# EAGLE library part EF40-P (library old Tubes)
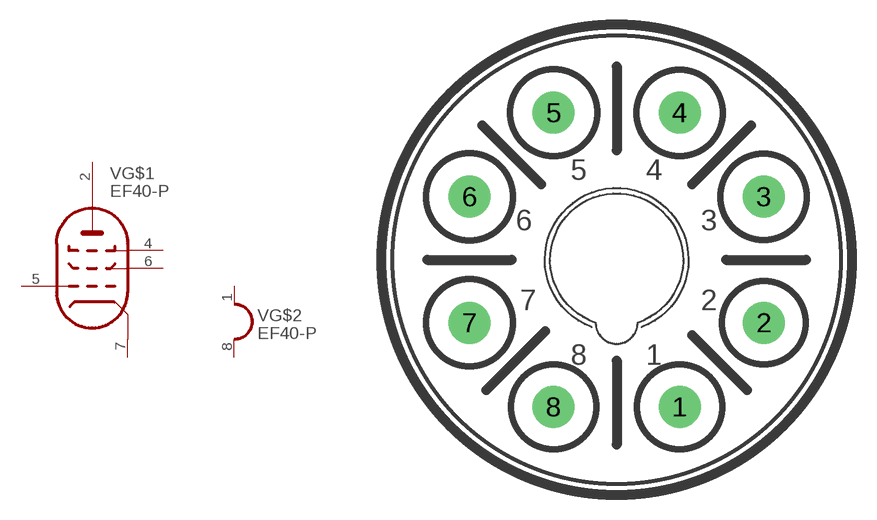
[diagram p54: symbol with the pads of OKTAL; footprint OKTAL]

Designator prefix V; gates G$1=PENTODE/ G$2=HEATER_1

## EF40-P  [OKTAL]
1  G$2:H1  pas
2  G$1:PA  pas
4  G$1:PBG  pas
5  G$1:PG  pas
6  G$1:PSG  pas
7  G$1:PK  pas
8  G$2:H2  pas

## Footprint OKTAL (pad centres in mm)
drill 1.27 pad 2.54: 1 3.81,-8.89; 2 8.89,-3.81; 3 8.89,3.81; 4 3.81,8.89; 5 -3.81,8.89; 6 -8.89,3.81; 7 -8.89,-3.81; 8 -3.81,-8.89